# Altium footprint library DIP254P762X533-20.PcbLib: 1 footprints
Each footprint in its own frame and in the unit in brackets; x right, y up, seen from the top. Pads: shape width x height; smd on the part's side, far side on the other; paste and mask are expansions set on the pad; w line width, h text height; cw(c..) or ccw(c..) is an arc to the next point about the centre after c.
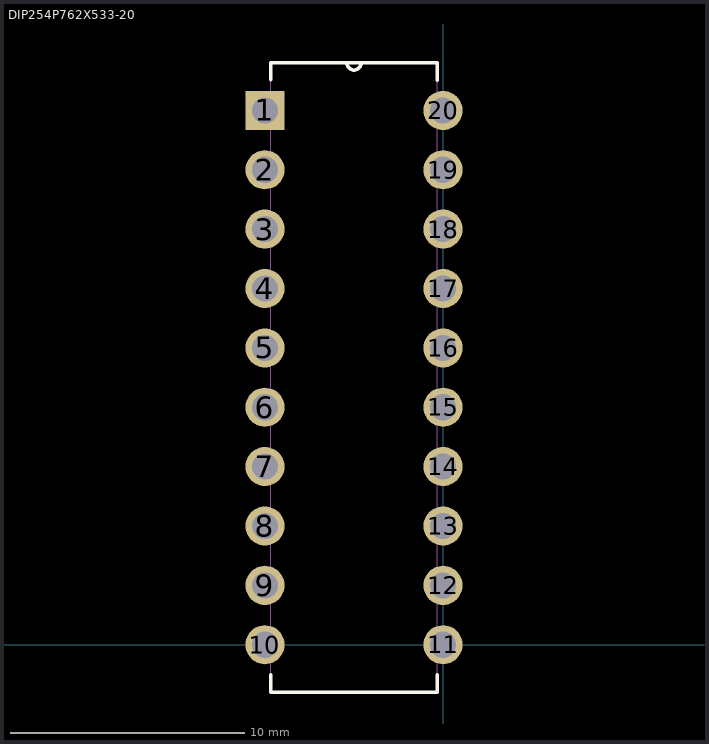
[diagram p0: the footprint, top view; thin cyan lines are the x and y axes]

## DIP254P762X533-20 [mil]
pads (20):
  rect 66x66 hole 44: 1(-300,900)
  round 66 hole 44: 2(-300,800) 3(-300,700) 4(-300,600) 5(-300,500) 6(-300,400) 7(-300,300) 8(-300,200) 9(-300,100) 10(-300,0) 11(0,0) 12(0,100) 13(0,200) 14(0,300) 15(0,400) 16(0,500) 17(0,600) 18(0,700) 19(0,800) 20(0,900)
Top Overlay:
  lines w6: -290,-51 -290,-80 -10,-80 -10,-51 ; -290,952 -290,980 -162,980 ; -10,951 -10,980 -138,980 ; -162,980 ccw(c-150,980) -138,980 ; -162,980 -138,980
Mechanical 13:
  lines w0: -162,980 ccw(c-150,980) -138,980 ; -162,980 -138,980 ; -162,980 -290,980 -290,-80 -10,-80 -10,980 -138,980 ; -322,-22 -322,22 -290,22 -290,-22 -322,-22 ; -322,78 -322,122 -290,122 -290,78 -322,78 ; -322,178 -322,222 -290,222 -290,178 -322,178 ; -322,278 -322,322 -290,322 -290,278 -322,278 ; -322,378 -322,422 -290,422 -290,378 -322,378 ; -322,478 -322,522 -290,522 -290,478 -322,478 ; -322,578 -322,622 -290,622 -290,578 -322,578 ; -322,678 -322,722 -290,722 -290,678 -322,678 ; -322,778 -322,822 -290,822 -290,778 -322,778 ; -322,878 -322,922 -290,922 -290,878 -322,878 ; -10,-22 -10,22 22,22 22,-22 -10,-22 ; -10,78 -10,122 22,122 22,78 -10,78 ; -10,178 -10,222 22,222 22,178 -10,178 ; -10,278 -10,322 22,322 22,278 -10,278 ; -10,378 -10,422 22,422 22,378 -10,378 ; -10,478 -10,522 22,522 22,478 -10,478 ; -10,578 -10,622 22,622 22,578 -10,578 ; -10,678 -10,722 22,722 22,678 -10,678 ; -10,778 -10,822 22,822 22,778 -10,778 ; -10,878 -10,922 22,922 22,878 -10,878